# EAGLE library part CS4218 (library F030NG)
CODEC / CRYSTAL CS4218
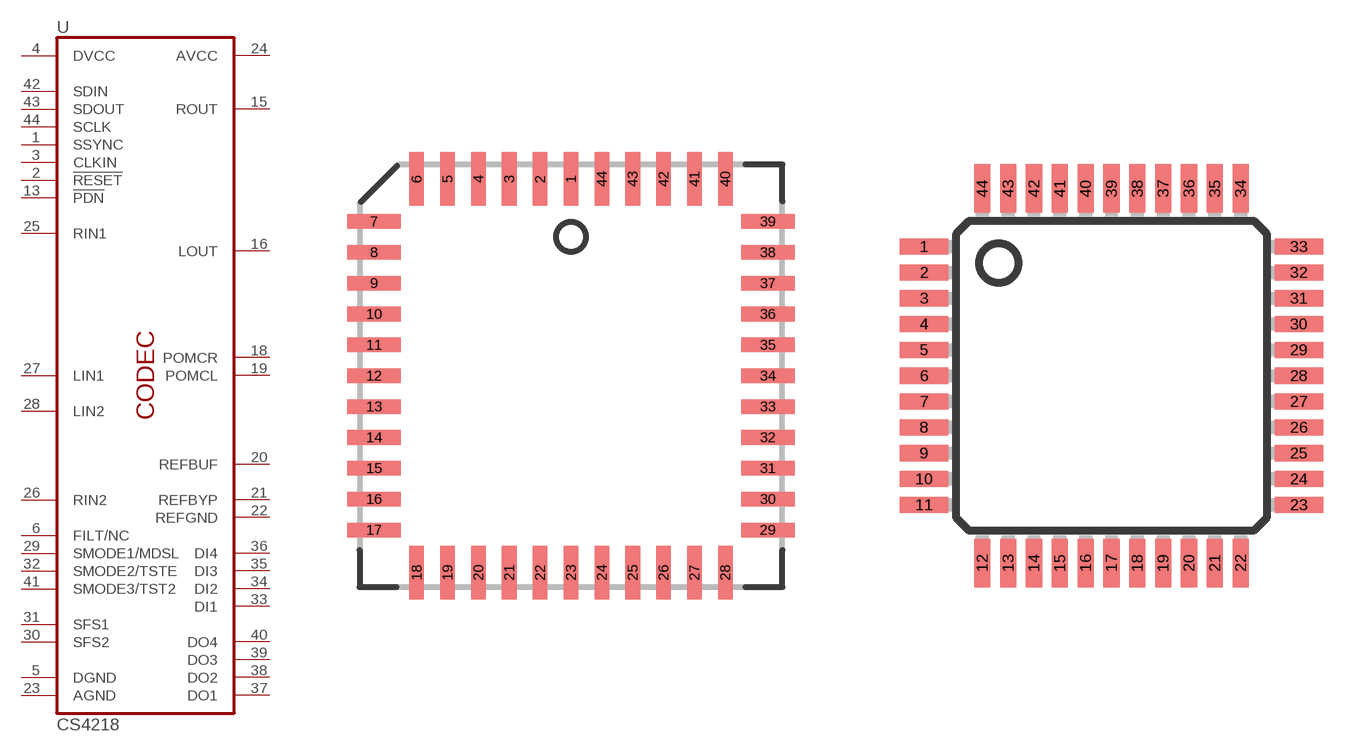
[diagram p60: symbol with the pads of PLCC44; footprints PLCC44, TQFP44]

Designator prefix U

## CS4218-PLCC  [PLCC44]
1  SSYNC  in
2  !RESET  in
3  CLKIN  in
4  DVCC  pwr
5  DGND  pas
6  FILT/NC  pas
13  !PDN  in
15  ROUT  out
16  LOUT  out
18  POMCR  sup
19  POMCL  sup
20  REFBUF  in
21  REFBYP  sup
22  REFGND  sup
23  AGND  pas
24  AVCC  pwr
25  RIN1  in
26  RIN2  in
27  LIN1  in
28  LIN2  in
29  SMODE1/MDSL  in
30  SFS2  in
31  SFS1  in
32  SMODE2/TSTE  in
33  DI1  in
34  DI2  in
35  DI3  in
36  DI4  in
37  DO1  out
38  DO2  out
39  DO3  out
40  DO4  out
41  SMODE3/TST2  in
42  SDIN  in
43  SDOUT  out
44  SCLK  in

## CS4218-TQFP  [TQFP44]
7  !PDN  in
9  ROUT  out
10  LOUT  out
12  POMCR  sup
13  POMCL  sup
14  REFBUF  in
15  REFBYP  sup
16  REFGND  sup
17  AGND  pas
18  AVCC  pwr
19  RIN1  in
20  RIN2  in
21  LIN1  in
22  LIN2  in
23  SMODE1/MDSL  in
24  SFS2  in
25  SFS1  in
26  SMODE2/TSTE  in
27  DI1  in
28  DI2  in
29  DI3  in
30  DI4  in
31  DO1  out
32  DO2  out
33  DO3  out
34  DO4  out
35  SMODE3/TST2  in
36  SDIN  in
37  SDOUT  out
38  SCLK  in
39  SSYNC  in
40  !RESET  in
41  CLKIN  in
42  DVCC  pwr
43  DGND  pas
44  FILT/NC  pas

## Footprint PLCC44 (pad centres in mm)
PLASTIC LEADED CHIP CARRIER square
smd 0.6 x 2.2: 1 0,8.1; 2 -1.27,8.1; 3 -2.54,8.1; 4 -3.81,8.1; 5 -5.08,8.1; 6 -6.35,8.1; 18 -6.35,-8.1; 19 -5.08,-8.1; 20 -3.81,-8.1; 21 -2.54,-8.1; 22 -1.27,-8.1; 23 0,-8.1; 24 1.27,-8.1; 25 2.54,-8.1; 26 3.81,-8.1; 27 5.08,-8.1; 28 6.35,-8.1; 40 6.35,8.1; 41 5.08,8.1; 42 3.81,8.1; 43 2.54,8.1; 44 1.27,8.1
smd 2.2 x 0.6: 7 -8.1,6.35; 8 -8.1,5.08; 9 -8.1,3.81; 10 -8.1,2.54; 11 -8.1,1.27; 12 -8.1,0; 13 -8.1,-1.27; 14 -8.1,-2.54; 15 -8.1,-3.81; 16 -8.1,-5.08; 17 -8.1,-6.35; 29 8.1,-6.35; 30 8.1,-5.08; 31 8.1,-3.81; 32 8.1,-2.54; 33 8.1,-1.27; 34 8.1,0; 35 8.1,1.27; 36 8.1,2.54; 37 8.1,3.81; 38 8.1,5.08; 39 8.1,6.35

## Footprint TQFP44 (pad centres in mm)
Thin Quad Flat Pack package type TQ
smd 1.5 x 0.5: 1 -5.8,4; 2 -5.8,3.2; 3 -5.8,2.4; 4 -5.8,1.6; 5 -5.8,0.8; 6 -5.8,0; 7 -5.8,-0.8; 8 -5.8,-1.6; 9 -5.8,-2.4; 10 -5.8,-3.2; 11 -5.8,-4; 23 5.8,-4; 24 5.8,-3.2; 25 5.8,-2.4; 26 5.8,-1.6; 27 5.8,-0.8; 28 5.8,0; 29 5.8,0.8; 30 5.8,1.6; 31 5.8,2.4; 32 5.8,3.2; 33 5.8,4
smd 0.5 x 1.5: 12 -4,-5.8; 13 -3.2,-5.8; 14 -2.4,-5.8; 15 -1.6,-5.8; 16 -0.8,-5.8; 17 0,-5.8; 18 0.8,-5.8; 19 1.6,-5.8; 20 2.4,-5.8; 21 3.2,-5.8; 22 4,-5.8; 34 4,5.8; 35 3.2,5.8; 36 2.4,5.8; 37 1.6,5.8; 38 0.8,5.8; 39 0,5.8; 40 -0.8,5.8; 41 -1.6,5.8; 42 -2.4,5.8; 43 -3.2,5.8; 44 -4,5.8